# Altium footprint library LIANGJICHAO_LIBRARY.PCBLIB: 178 footprints (part 7 of 12)
Each footprint in its own frame and in the unit in brackets; x right, y up, seen from the top. Pads: shape width x height; smd on the part's side, far side on the other; paste and mask are expansions set on the pad; w line width, h text height; cw(c..) or ccw(c..) is an arc to the next point about the centre after c.
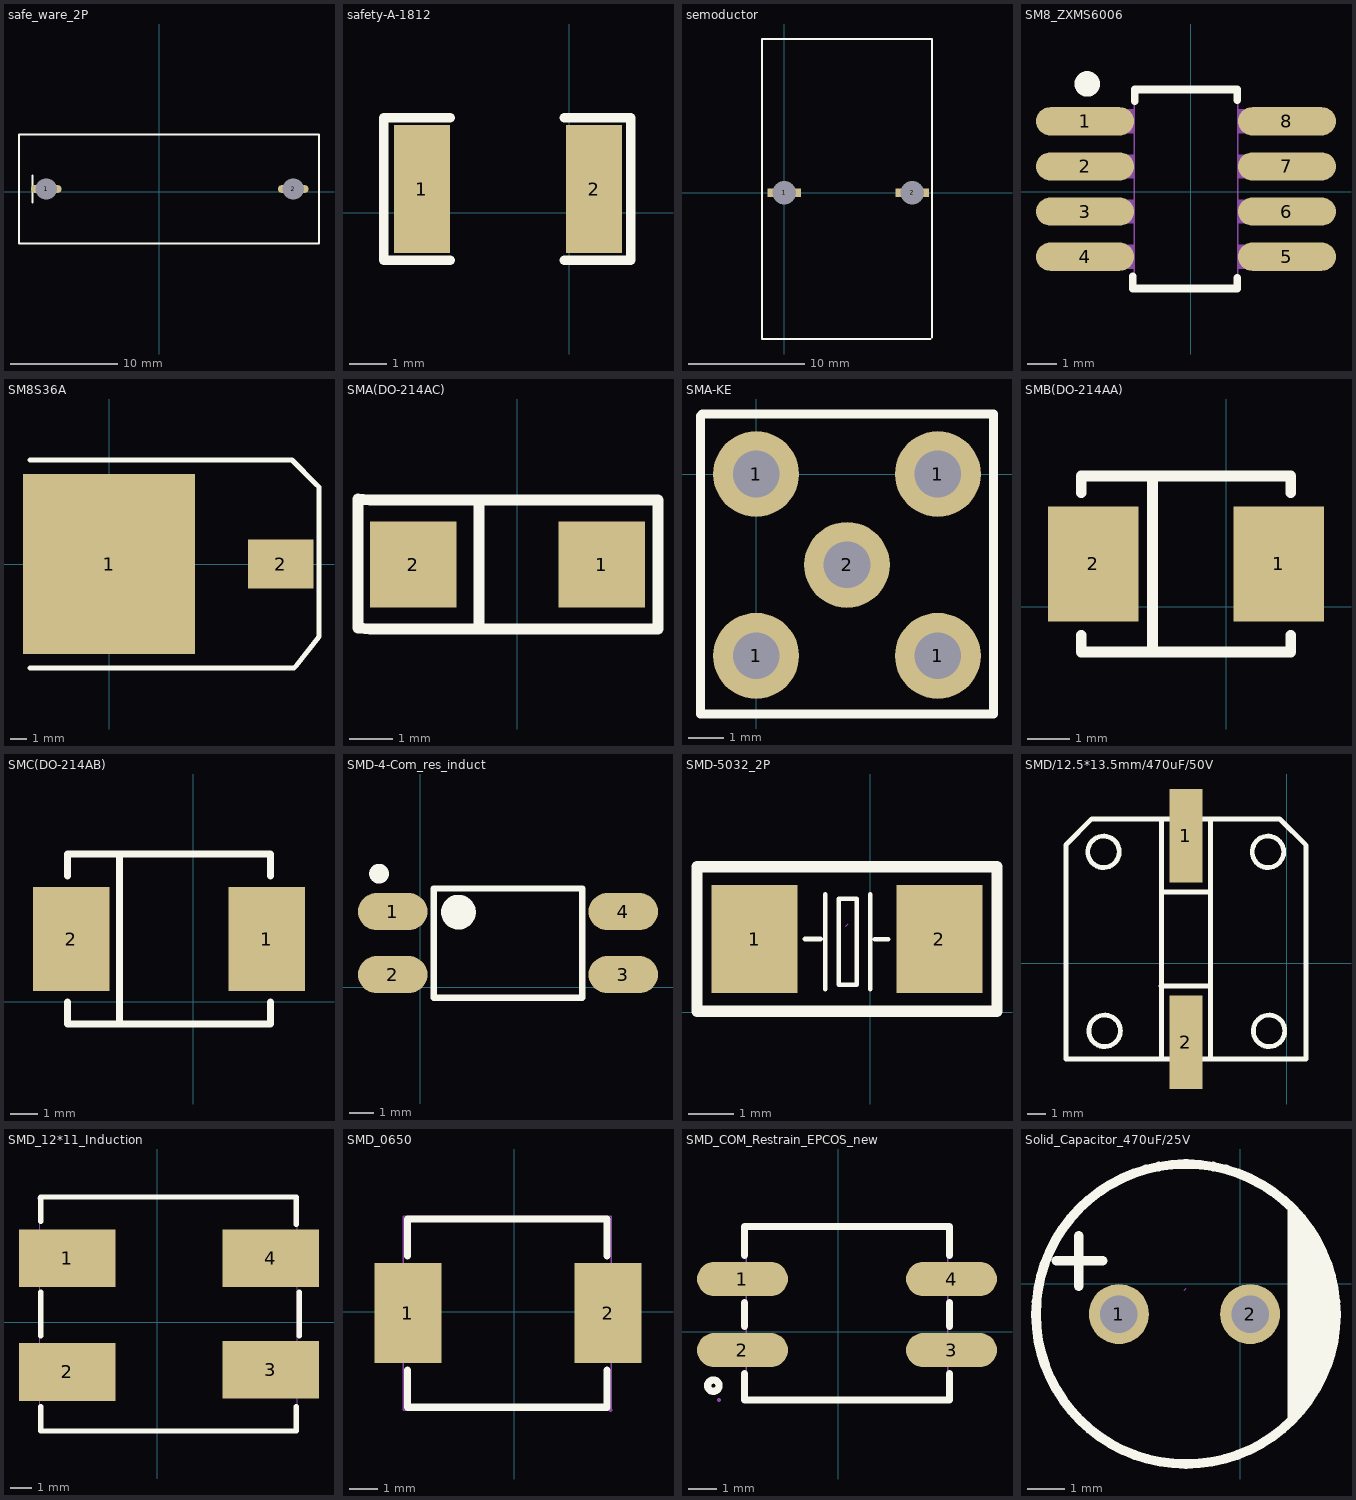
[diagram p6: the footprints below, top view; thin cyan lines are the x and y axes]

## safe_ware_2P [mil]
pads (2):
  oval 113x28 hole 78.74: 1(-415,10) 2(490.51,10)
Top Overlay:
  lines w7.87: -465,-40 -465,60 ; -515,-190 585,-190 585,210 -515,210 -515,-190

## safety-A-1812 [mm]
pads (2):
  rect 1.5x3.42 smd: 1(-3.937,0.635) 2(0.663,0.635)
Top Overlay:
  lines w0.254: -3.175,-1.27 -4.953,-1.27 -4.953,2.54 -3.175,2.54 ; -0.127,-1.27 1.651,-1.27 1.651,2.54 -0.127,2.54

## semoductor [mil]
pads (2):
  rect 113x28 hole 78.74: 1(0,0) 2(433.07,0)
Top Overlay:
  lines w7.87: 495,-495 -75,-495 -75,520 500,520 500,-490

## SM8_ZXMS6006 [mm]
pads (8):
  oval 3.3x0.95 smd: 1(-3.556,2.375) 2(-3.556,0.855) 3(-3.556,-0.664) 4(-3.556,-2.184) 5(3.244,-2.184) 6(3.244,-0.664) 7(3.244,0.855) 8(3.244,2.375)
Top Overlay:
  circle w0.5: c-3.482,3.632 r0.18
  lines w0.254: -1.956,-2.845 -1.956,-3.255 1.575,-3.255 1.575,-2.885 ; -1.88,3.048 -1.88,3.446 1.575,3.446 1.575,3.076
Mechanical 15:
  region: -3.656,3.336 -3.632,3.336 -3.597,3.371 -3.597,3.42 -3.632,3.455 -3.656,3.455 -3.68,3.455 -3.715,3.42 -3.715,3.371 -3.681,3.336
  region: 1.584,2.775 2.454,2.775 2.454,1.975 1.584,1.975
  region: 2.444,2.775 3.344,2.775 3.344,1.975 2.444,1.975
  region: 1.584,1.255 2.454,1.255 2.454,0.455 1.584,0.455
  region: 2.444,1.255 3.344,1.255 3.344,0.455 2.444,0.455
  region: 1.584,-0.264 2.454,-0.264 2.454,-1.064 1.584,-1.064
  region: 2.444,-0.264 3.344,-0.264 3.344,-1.064 2.444,-1.064
  region: 1.584,-1.784 2.454,-1.784 2.454,-2.584 1.584,-2.584
  region: 2.444,-1.784 3.344,-1.784 3.344,-2.584 2.444,-2.584
  region: -2.766,-1.784 -1.896,-1.784 -1.896,-2.584 -2.766,-2.584
  region: -3.656,-1.784 -2.756,-1.784 -2.756,-2.584 -3.656,-2.584
  region: -2.766,-0.264 -1.896,-0.264 -1.896,-1.064 -2.766,-1.064
  region: -3.656,-0.264 -2.756,-0.264 -2.756,-1.064 -3.656,-1.064
  region: -2.766,1.255 -1.896,1.255 -1.896,0.455 -2.766,0.455
  region: -3.656,1.255 -2.756,1.255 -2.756,0.455 -3.656,0.455
  region: -2.766,2.775 -1.896,2.775 -1.896,1.975 -2.766,1.975
  region: -3.656,2.775 -2.756,2.775 -2.756,1.975 -3.656,1.975
  lines w0.051: -1.906,-3.205 1.594,-3.205 1.594,3.395 -1.906,3.395 -1.906,-3.205

## SM8S36A [mm]
pads (2):
  rect 10.5x11 smd: 1(0,0)
  rect 4x3 smd: 2(10.5,0)
Top Overlay:
  lines w0.3: -4.826,-6.35 11.303,-6.35 ; -4.826,6.35 11.176,6.35 12.7,4.826 ; 11.43,-6.223 12.827,-4.445 12.827,-3.683 12.827,4.699

## SMA(DO-214AC) [mm]
pads (2):
  rect 2x2 smd: 1(1.961,4.064) 2(-2.413,4.064)
Top Overlay:
  lines w0.254: -0.889,2.564 -0.889,5.564 ; -3.695,2.588 -3.417,2.564 -2.489,2.564 2.211,2.564 3.266,2.564 3.266,5.564 2.211,5.564 -2.489,5.564 -3.417,5.564 -3.695,5.588 -3.695,2.588

## SMA-KE [mm]
pads (5):
  round 2.4 hole 1.3: 1(0,-5.08) 1(0,0) 1(5.08,-5.08) 1(5.08,0) 2(2.54,-2.54)
Top Overlay:
  lines w0.254: -1.549,-6.706 6.629,-6.706 6.629,1.676 -1.499,1.676 -1.549,1.626 -1.549,-6.706

## SMB(DO-214AA) [mil]
pads (2):
  rect 85x107.99 smd: 1(49.02,40) 2(-125,40)
Top Overlay:
  lines w10: -136.42,-26.93 -136.42,-42.68 60.43,-42.68 60.43,-26.93 ; -136.42,106.93 -136.42,122.68 60.43,122.68 60.43,106.93 ; -69.49,-42.68 -69.49,122.68

## SMC(DO-214AB) [mil]
pads (2):
  rect 110x150 smd: 1(105.49,90) 2(-175.49,90)
Top Overlay:
  lines w10: -180.67,-0.55 -180.67,-32.05 110.67,-32.05 110.67,-0.55 ; -180.67,180.55 -180.67,212.05 110.67,212.05 110.67,180.55 ; -105.87,-32.05 -105.87,212.05

## SMD-4-Com_res_induct [mm]
pads (4):
  oval 2.8x1.5 smd: 1(-1.111,3.052) 2(-1.111,0.512) 3(8.189,0.512) 4(8.189,3.052)
Top Overlay:
  circle w0.4: c-1.661,4.582 r0.2
  circle w0.7: c1.539,3.032 r0.35
  lines w0.254: 0.539,-0.418 0.539,3.982 6.539,3.982 6.539,-0.418 0.539,-0.418

## SMD-5032_2P [mm]
pads (2):
  rect 1.9x2.4 smd: 1(-2.56,1.625) 2(1.54,1.625)
Top Overlay:
  lines w0.1: -1.45,1.625 -1.095,1.625 ; -0.993,0.516 -0.993,2.616 ; 0.007,0.516 0.007,2.616 ; 0.107,1.616 0.407,1.616 ; -0.693,0.616 -0.693,2.516 -0.293,2.516 -0.293,0.616 -0.693,0.616
  lines w0.254: -3.835,0.025 2.815,0.025 2.815,0.925 2.815,2.325 2.815,3.225 -3.835,3.225 -3.835,2.325 -3.835,0.925 -3.835,0.025
Mechanical 15:
  lines w0.003: -0.536,1.911 -0.485,1.962

## SMD/12.5*13.5mm/470uF/50V [mm]
pads (2):
  rect 1.778x5 smd: 1(-5.363,6.794) 2(-5.363,-4.206)
Top Overlay:
  circle w0.254: c-0.93,-3.604 r0.84
  circle w0.254: c-9.7,-3.604 r0.84
  circle w0.254: c-0.99,5.944 r0.84
  circle w0.254: c-9.76,5.944 r0.84
  lines w0.254: -11.76,6.295 -11.76,-5.106 1.04,-5.106 1.04,6.295 ; -11.76,6.315 -10.39,7.695 ; -10.36,7.695 -0.36,7.695 1.02,6.324 ; -6.69,-1.206 -4.13,-1.206 ; -6.67,3.794 -4.08,3.794 ; -6.66,-5.114 -6.66,7.686 ; -4.06,-5.106 -4.06,7.695

## SMD_12*11_Induction [mm]
pads (4):
  rect 4.5x2.7 smd paste+0 mask+0: 1(-4.191,2.981) 2(-4.191,-2.319) 3(5.309,-2.219) 4(5.309,2.981)
Top Overlay:
  lines w0.254: -5.436,-3.937 -5.436,-5.08 6.502,-5.08 6.502,-3.937 ; -5.436,-0.635 -5.436,1.397 ; -5.436,4.699 -5.436,5.842 6.502,5.842 6.502,4.572 ; 6.629,-0.635 6.629,1.397
Mechanical 15:
  region: -2.841,1.731 -5.541,1.731 -5.541,4.231 -2.841,4.231
  region: -2.841,-3.569 -5.541,-3.569 -5.541,-1.069 -2.841,-1.069
  region: 6.659,-3.469 3.959,-3.469 3.959,-0.969 6.659,-0.969
  region: 6.659,1.731 3.959,1.731 3.959,4.231 6.659,4.231
  region: -5.46,5.781 -5.46,5.806 -5.495,5.841 -5.545,5.841 -5.58,5.806 -5.58,5.781 -5.58,5.756 -5.545,5.721 -5.495,5.721 -5.46,5.756
  lines w0.051: -5.467,-5.019 6.533,-5.019 6.533,5.781 -5.467,5.781 -5.467,-5.019

## SMD_0650 [mm]
pads (2):
  rect 2.35x3.5 smd: 1(-3.727,-0.045) 2(3.289,-0.045)
Top Overlay:
  lines w0.254: -3.744,-2.045 -3.744,-3.345 3.255,-3.345 3.255,-2.045 ; -3.744,1.955 -3.744,3.255 3.255,3.255 3.255,1.955
Mechanical 15:
  region: -4.377,1.405 -2.777,1.405 -2.777,-1.495 -4.377,-1.495
  region: 2.339,1.405 3.939,1.405 3.939,-1.495 2.339,-1.495
  region: 3.435,-3.445 3.435,-3.42 3.4,-3.385 3.351,-3.385 3.315,-3.42 3.315,-3.445 3.315,-3.47 3.351,-3.505 3.4,-3.505 3.435,-3.47
  lines w0.051: -3.895,-3.445 3.405,-3.445 3.405,3.355 -3.895,3.355 -3.895,-3.445

## SMD_COM_Restrain_EPCOS_new [mm]
pads (4):
  oval 3.2x1.2 smd paste+0 mask+0.05: 1(-3.376,1.846) 2(-3.376,-0.654) 3(3.974,-0.654) 4(3.974,1.846)
Top Overlay:
  circle w0.254: c-4.401,-1.904 r0.2
  lines w0.254: -3.301,-1.485 -3.301,-2.404 3.899,-2.404 3.899,-1.485 ; -3.301,0.177 -3.301,1.015 ; -3.301,2.677 -3.301,3.696 3.899,3.696 3.899,2.677 ; 3.899,0.177 3.899,1.015
Mechanical 15:
  region: -4.141,-2.404 -4.141,-2.379 -4.176,-2.344 -4.225,-2.344 -4.261,-2.379 -4.261,-2.404 -4.261,-2.429 -4.225,-2.464 -4.176,-2.464 -4.141,-2.429
  region: -4.201,2.146 -2.301,2.146 -2.301,1.546 -4.201,1.546
  region: 2.899,2.146 4.799,2.146 4.799,1.546 2.899,1.546
  region: 2.899,-0.354 4.799,-0.354 4.799,-0.954 2.899,-0.954
  region: -4.201,-0.354 -2.301,-0.354 -2.301,-0.954 -4.201,-0.954
  lines w0.051: -3.251,-2.404 -3.251,3.596 3.849,3.596 3.849,-2.404 -3.251,-2.404

## Solid_Capacitor_470uF/25V [mm]
pads (2):
  round 1.6 hole 1: 1(-3.236,-0.801) 2(0.264,-0.801)
Top Overlay:
  region: 1.264,-3.801 1.454,-3.601 1.781,-3.156 2.05,-2.673 2.255,-2.16 2.394,-1.626 2.464,-1.077 2.464,-0.525 2.394,0.023 2.255,0.558 2.05,1.071 1.781,1.554 1.454,1.999 1.264,2.199
  lines w0.254: -4.913,0.621 -3.668,0.621 ; -4.303,-0.065 -4.303,1.282 ; -1.484,3.199 ccw(c-1.448,-0.801) -1.413,3.199
Mechanical 15:
  lines w0.003: -1.493,-0.162 -1.442,-0.111